# Altium footprint library SOP254P980X300-6N.PcbLib: 1 footprints
Each footprint in its own frame and in the unit in brackets; x right, y up, seen from the top. Pads: shape width x height; smd on the part's side, far side on the other; paste and mask are expansions set on the pad; w line width, h text height; cw(c..) or ccw(c..) is an arc to the next point about the centre after c.
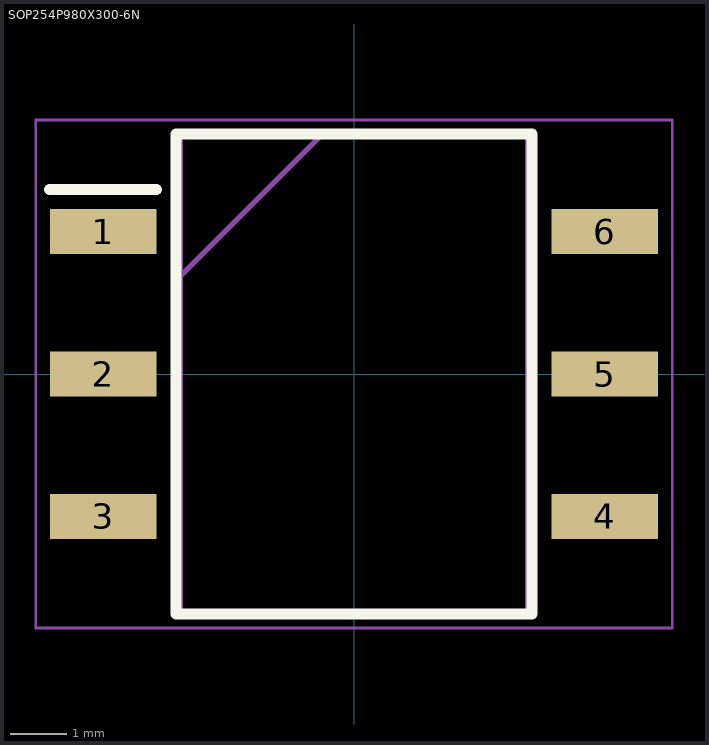
[diagram p0: the footprint, top view; thin cyan lines are the x and y axes]

## SOP254P980X300-6N [mm]
pads (6):
  rect 1.9x0.8 smd: 1(-4.475,2.54) 2(-4.475,0) 3(-4.475,-2.54) 4(4.475,-2.54) 5(4.475,0) 6(4.475,2.54)
Top Overlay:
  lines w0.2: -5.425,3.29 -3.525,3.29 ; -3.175,-4.28 3.175,-4.28 3.175,4.28 -3.175,4.28 -3.175,-4.28
Mechanical 15:
  lines w0.1: -3.1,1.74 -0.56,4.28 ; -3.1,-4.28 3.1,-4.28 3.1,4.28 -3.1,4.28 -3.1,-4.28
Mechanical 20:
  lines w0.05: -5.675,-4.53 5.675,-4.53 5.675,4.53 -5.675,4.53 -5.675,-4.53
3D body "418121160803.stp": height 5.8, standoff -4.65, extent -10,-3.376 10,3.376